# Altium schematic symbol library Audio Codec.SchLib: 10 symbols
Pins are listed as number, name and electrical type; pins without a type are passive.

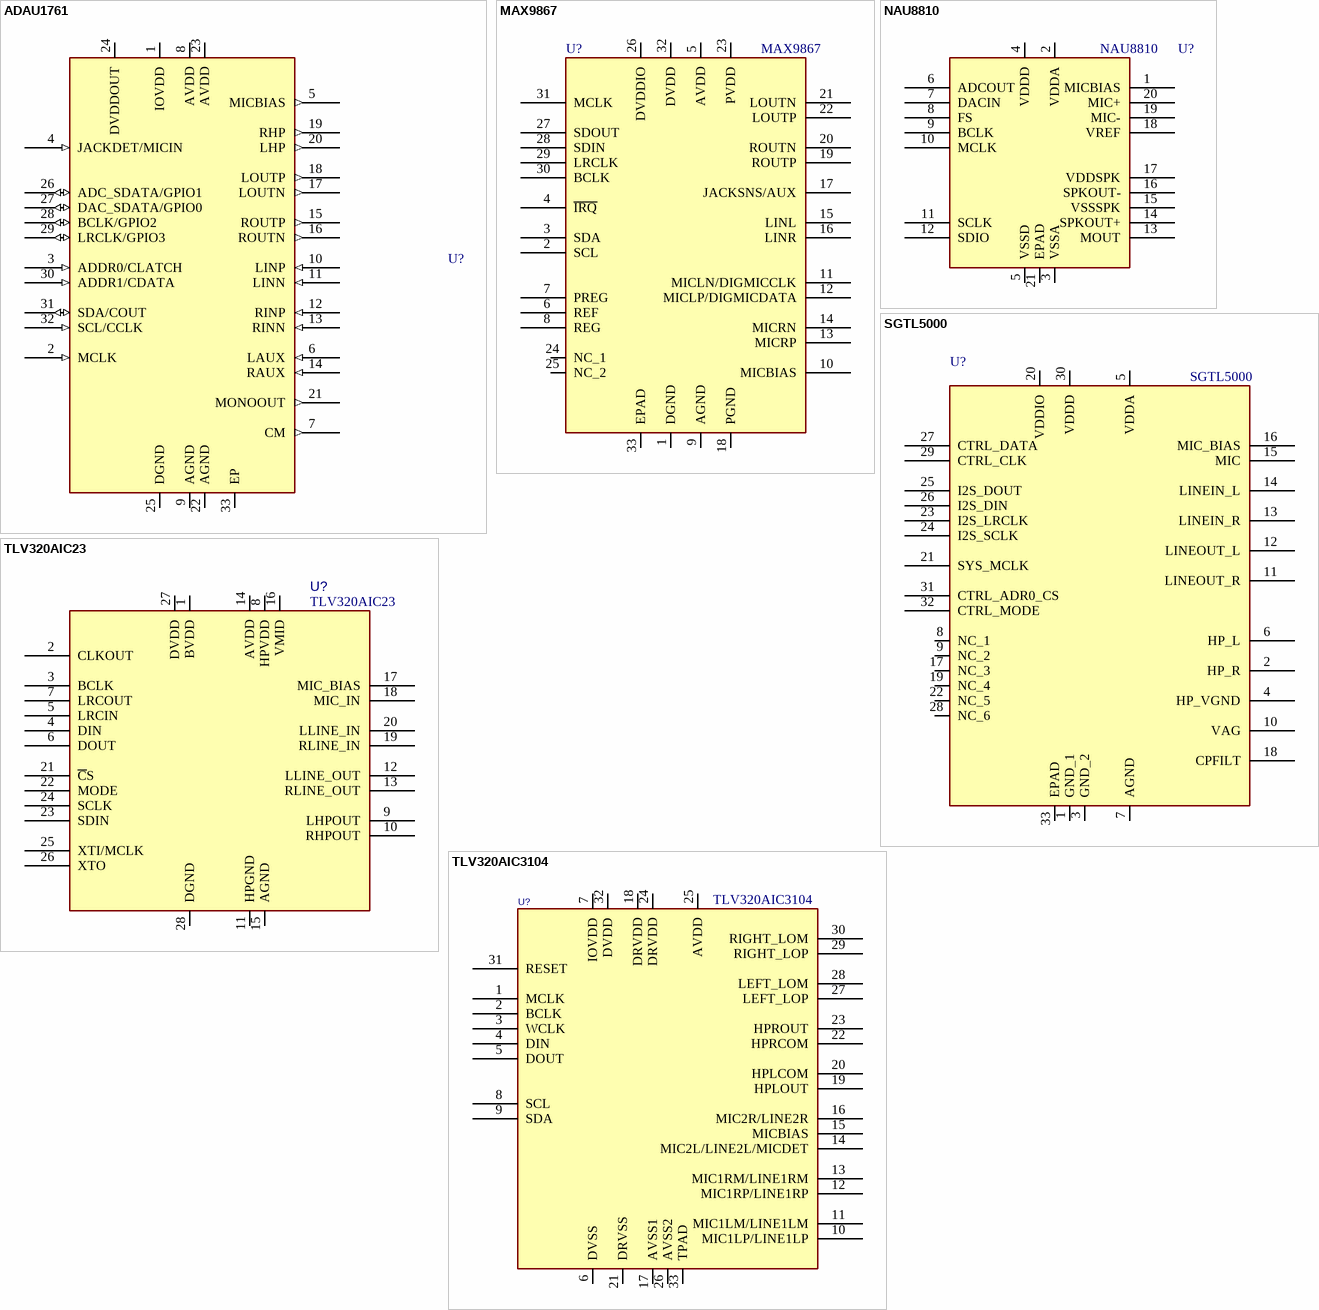
[diagram p0: symbols ADAU1761 to TLV320AIC3104]

## ADAU1761
designator U?
AUDIO CODEC, STEREO, 96kHz, 24-bit; MANF: Analog Devices; MANF_P#: ADAU1761BCPZ; PARAM2: 1.8~3.3V; PARAM: 96kHz, 24-bit; PRICE: 124; VALUE: ADAU1761
footprint QFN50_32T (QFN, 32, 5X5mm, 0.5mm)
pins: 1 IOVDD (power), 2 MCLK (in), 3 ADDR0/CLATCH (in), 4 JACKDET/MICIN (in), 5 MICBIAS (out), 6 LAUX (in), 7 CM (out), 8 AVDD (power), 9 AGND (power), 10 LINP (in), 11 LINN (in), 12 RINP (in), 13 RINN (in), 14 RAUX (in), 15 ROUTP (out), 16 ROUTN (out), 17 LOUTN (out), 18 LOUTP (out), 19 RHP (out), 20 LHP (out), 21 MONOOUT (out), 22 AGND (power), 23 AVDD (power), 24 DVDDOUT (power), 25 DGND (power), 26 ADC_SDATA/GPIO1 (io), 27 DAC_SDATA/GPIO0 (io), 28 BCLK/GPIO2 (io), 29 LRCLK/GPIO3 (io), 30 ADDR1/CDATA (in), 31 SDA/COUT (io), 32 SCL/CCLK (in), 33 EP (power)

## MAX9867
designator U?
AUDIO CODEC, STEREO, 48KHz, 18-Bit, I²C, Serial, 32TQFN-EP; MANF: Maxim Integrated; MANF_P#: MAX9867ETJ+; PARAM2: 1.65~1.95VA, 1.65~1.95VDD; PARAM: 48KHz, 18-Bit; PRICE: 1=2.97, 10=2.822, 25=1.98, 50=1.881, 100=1.43, 250=1.35852, 500=1.26226 (USD); VALUE: MAX9867
footprint QFN32 5x5x0.85
pins: 1 DGND, 2 SCL, 3 SDA, 4 ~{IRQ}, 5 AVDD, 6 REF, 7 PREG, 8 REG, 9 AGND, 10 MICBIAS, 11 MICLN/DIGMICCLK, 12 MICLP/DIGMICDATA, 13 MICRP, 14 MICRN, 15 LINL, 16 LINR, 17 JACKSNS/AUX, 18 PGND, 19 ROUTP, 20 ROUTN, 21 LOUTN, 22 LOUTP, 23 PVDD, 24 NC_1, 25 NC_2, 26 DVDDIO, 27 SDOUT, 28 SDIN, 29 LRCLK, 30 BCLK, 31 MCLK, 32 DVDD, 33 EPAD

## NAU8810
designator U?
AUDIO CODEC, STEREO, I2C, I2S, 48KHz, 24-Bit; MANF_P#: NAU8810YG; MANF: Nuvoton; PARAM2: 2.5~3.6VA, 1.7~3.6VDD; PARAM: 48KHz, 24-Bit; PRICE: 2.7$; VALUE: NAU8810
footprint QFN50_20T (QFN, 20, 4X4mm, 0.5mm)
pins: 1 MICBIAS, 2 VDDA, 3 VSSA, 4 VDDD, 5 VSSD, 6 ADCOUT, 7 DACIN, 8 FS, 9 BCLK, 10 MCLK, 11 SCLK, 12 SDIO, 13 MOUT, 14 SPKOUT+, 15 VSSSPK, 16 SPKOUT-, 17 VDDSPK, 18 VREF, 19 MIC-, 20 MIC+, 21 EPAD

## SGTL5000
designator U?
AUDIO CODEC, STEREO, I2C, SPI, 32-QFN; MANF: Freescale Semiconductor; MANF_P#: SGTL5000XNAA3R2; PARAM2: 1.62~3.6VA, 1.1~2VDD, 1.62~3.6VDD; PRICE: 1=2.66, 10=2.375, 25=2.2324, 100=2.1375, 250=2.04252, 500=1.9, 1000=1.8525 (USD); VALUE: SGTL5000
footprint QFN50_32T (QFN, 32, 5X5mm, 0.5mm)
pins: 1 GND_1, 2 HP_R, 3 GND_2, 4 HP_VGND, 5 VDDA, 6 HP_L, 7 AGND, 8 NC_1, 9 NC_2, 10 VAG, 11 LINEOUT_R, 12 LINEOUT_L, 13 LINEIN_R, 14 LINEIN_L, 15 MIC, 16 MIC_BIAS, 17 NC_3, 18 CPFILT, 19 NC_4, 20 VDDIO, 21 SYS_MCLK, 22 NC_5, 23 I2S_LRCLK, 24 I2S_SCLK, 25 I2S_DOUT, 26 I2S_DIN, 27 CTRL_DATA, 28 NC_6, 29 CTRL_CLK, 30 VDDD, 31 CTRL_ADR0_CS, 32 CTRL_MODE, 33 EPAD

## TLV320AIC23
designator U?
AUDIO CODEC, STEREO, 8~96KHz, 16/20/24/32Bit; MANF_P#: TLV320AIC23IPW; MANF: TI; PARAM: 8~96KHz, 16/20/24/32Bit, I2C, I2S; DESC: DESCRIPTION; PARAM2: 2.7~3.6VA, 1.42~3.6VDD; ASSEMBLY: ASSEMBLY; PRICE: PRICE; VALUE: TLV320AIC23
footprint SOG65_28_1000X440 (PW TSSOP (TI), MO-153-AE (JEDEC), 28Lead, pitch: 0.65mm, 10x4.4x1.2mm)
pins: 1 BVDD, 2 CLKOUT, 3 BCLK, 4 DIN, 5 LRCIN, 6 DOUT, 7 LRCOUT, 8 HPVDD, 9 LHPOUT, 10 RHPOUT, 11 HPGND, 12 LLINE_OUT, 13 RLINE_OUT, 14 AVDD, 15 AGND, 16 VMID, 17 MIC_BIAS, 18 MIC_IN, 19 RLINE_IN, 20 LLINE_IN, 21 ~{C}S, 22 MODE, 23 SDIN, 24 SCLK, 25 XTI/MCLK, 26 XTO, 27 DVDD, 28 DGND

## TLV320AIC3104
designator U?
AUDIO CODEC, STEREO, 48KHz, 24-Bit, I2C, I2S; MANF_P#: TLV320AIC3104IRHB; MANF: TI; PARAM2: 2.7~3.6VA, 1.65~1.95VDD; PARAM: 48KHz, 24-Bit; PRICE: 2$; VALUE: TLV320AIC3104
footprint QFN50_32T (QFN, 32, 5X5mm, 0.5mm)
pins: 1 MCLK, 2 BCLK, 3 WCLK, 4 DIN, 5 DOUT, 6 DVSS, 7 IOVDD, 8 SCL, 9 SDA, 10 MIC1LP/LINE1LP, 11 MIC1LM/LINE1LM, 12 MIC1RP/LINE1RP, 13 MIC1RM/LINE1RM, 14 MIC2L/LINE2L/MICDET, 15 MICBIAS, 16 MIC2R/LINE2R, 17 AVSS1, 18 DRVDD, 19 HPLOUT, 20 HPLCOM, 21 DRVSS, 22 HPRCOM, 23 HPROUT, 24 DRVDD, 25 AVDD, 26 AVSS2, 27 LEFT_LOP, 28 LEFT_LOM, 29 RIGHT_LOP, 30 RIGHT_LOM, 31 RESET, 32 DVDD, 33 TPAD

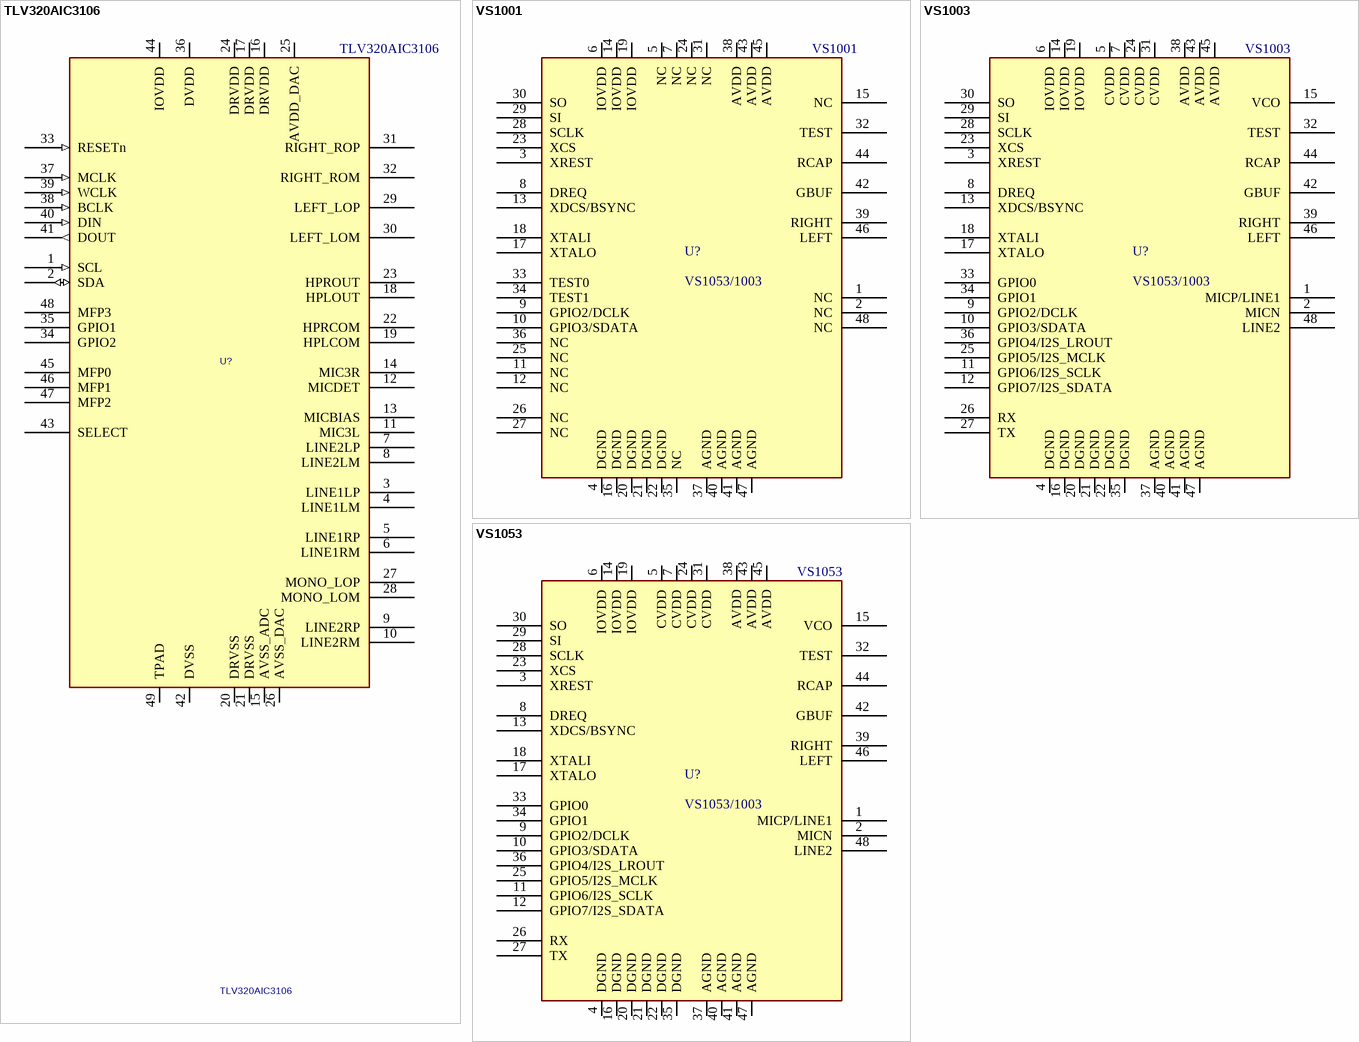
[diagram p1: symbols TLV320AIC3106 to VS1053]

## TLV320AIC3106
designator U?
AUDIO CODEC, STEREO, 8~96KHz, 16/20/24/32Bit; MANF: TI; MANF_P#: TLV320AIC3106IRG; PARAM2: 2.7~3.6VA, 1.65~1.95VDD, 1.1~3.6VIO; PARAM: 8~96KHz, 16/20/24/32Bit; VALUE: TLV320AIC3106
footprint vqfn48_rgz
pins: 1 SCL (in), 2 SDA (io), 3 LINE1LP, 4 LINE1LM, 5 LINE1RP, 6 LINE1RM, 7 LINE2LP, 8 LINE2LM, 9 LINE2RP, 10 LINE2RM, 11 MIC3L, 12 MICDET, 13 MICBIAS, 14 MIC3R, 15 AVSS_ADC (power), 16 DRVDD (power), 17 DRVDD (power), 18 HPLOUT, 19 HPLCOM, 20 DRVSS (power), 21 DRVSS (power), 22 HPRCOM, 23 HPROUT, 24 DRVDD (power), 25 AVDD_DAC (power), 26 AVSS_DAC (power), 27 MONO_LOP, 28 MONO_LOM, 29 LEFT_LOP, 30 LEFT_LOM, 31 RIGHT_ROP, 32 RIGHT_ROM, 33 RESETn (in), 34 GPIO2, 35 GPIO1, 36 DVDD (power), 37 MCLK (in), 38 BCLK (in), 39 WCLK (in), 40 DIN (in), 41 DOUT (out), 42 DVSS (power), 43 SELECT (power), 44 IOVDD (power), 45 MFP0, 46 MFP1, 47 MFP2, 48 MFP3, 49 TPAD

## VS1001
designator U?, comment VS1053/1003  value VS1001
AUDIO CODEC, STEREO, MP3; MANF: VLSI; MANF_P#: VS1001K; PARAM: MP3 Play
footprint QFG50_48 (LQFP48, PQFF, PQFG, TSQFP, 48-Leads, Body 7.00x7.00mm, Pitch 0.50mm)
pins: 1 NC, 2 NC, 3 XREST, 4 DGND, 5 NC, 6 IOVDD, 7 NC, 8 DREQ, 9 GPIO2/DCLK, 10 GPIO3/SDATA, 11 NC, 12 NC, 13 XDCS/BSYNC, 14 IOVDD, 15 NC, 16 DGND, 17 XTALO, 18 XTALI, 19 IOVDD, 20 DGND, 21 DGND, 22 DGND, 23 XCS, 24 NC, 25 NC, 26 NC, 27 NC, 28 SCLK, 29 SI, 30 SO, 31 NC, 32 TEST, 33 TEST0, 34 TEST1, 35 NC, 36 NC, 37 AGND, 38 AVDD, 39 RIGHT, 40 AGND, 41 AGND, 42 GBUF, 43 AVDD, 44 RCAP, 45 AVDD, 46 LEFT, 47 AGND, 48 NC

## VS1003
designator U?, comment VS1053/1003  value VS1003
AUDIO CODEC, STEREO, MP3; MANF: VLSI; PARAM: MP3/WMA Play + Record; MANF_P#: VS1003
footprint QFG50_48 (LQFP48, PQFF, PQFG, TSQFP, 48-Leads, Body 7.00x7.00mm, Pitch 0.50mm)
pins: 1 MICP/LINE1, 2 MICN, 3 XREST, 4 DGND, 5 CVDD, 6 IOVDD, 7 CVDD, 8 DREQ, 9 GPIO2/DCLK, 10 GPIO3/SDATA, 11 GPIO6/I2S_SCLK, 12 GPIO7/I2S_SDATA, 13 XDCS/BSYNC, 14 IOVDD, 15 VCO, 16 DGND, 17 XTALO, 18 XTALI, 19 IOVDD, 20 DGND, 21 DGND, 22 DGND, 23 XCS, 24 CVDD, 25 GPIO5/I2S_MCLK, 26 RX, 27 TX, 28 SCLK, 29 SI, 30 SO, 31 CVDD, 32 TEST, 33 GPIO0, 34 GPIO1, 35 DGND, 36 GPIO4/I2S_LROUT, 37 AGND, 38 AVDD, 39 RIGHT, 40 AGND, 41 AGND, 42 GBUF, 43 AVDD, 44 RCAP, 45 AVDD, 46 LEFT, 47 AGND, 48 LINE2

## VS1053
designator U?, comment VS1053/1003  value VS1053
AUDIO CODEC, STEREO, MP3; MANF: VLSI; PARAM: MP3/WAV/MIDI/OGG Play + Record; MANF_P#: VS1053
footprint QFG50_48 (LQFP48, PQFF, PQFG, TSQFP, 48-Leads, Body 7.00x7.00mm, Pitch 0.50mm)
pins: 1 MICP/LINE1, 2 MICN, 3 XREST, 4 DGND, 5 CVDD, 6 IOVDD, 7 CVDD, 8 DREQ, 9 GPIO2/DCLK, 10 GPIO3/SDATA, 11 GPIO6/I2S_SCLK, 12 GPIO7/I2S_SDATA, 13 XDCS/BSYNC, 14 IOVDD, 15 VCO, 16 DGND, 17 XTALO, 18 XTALI, 19 IOVDD, 20 DGND, 21 DGND, 22 DGND, 23 XCS, 24 CVDD, 25 GPIO5/I2S_MCLK, 26 RX, 27 TX, 28 SCLK, 29 SI, 30 SO, 31 CVDD, 32 TEST, 33 GPIO0, 34 GPIO1, 35 DGND, 36 GPIO4/I2S_LROUT, 37 AGND, 38 AVDD, 39 RIGHT, 40 AGND, 41 AGND, 42 GBUF, 43 AVDD, 44 RCAP, 45 AVDD, 46 LEFT, 47 AGND, 48 LINE2